# EAGLE library part HMC6343 (library SparkFun-Sensors)
Honewell HMC6343 Compass w/ Tilt Compensation The Honeywell HMC6343 is a fully integrated compass module that includes firmware for heading computation and calibration for magnetic distortions. The module combines three-axis magneto-resistive sensor, three-axis MEMS accelerometer, analog and digital support circuits, microprocessor and algorithms required for heading computation Datasheet <http://www51.honeywell.com/aero/common/documents/myaerospacecatalog-documents/Missiles-Munitions/HMC6343.pdf> SparkFun Products SparkFun HMC6343 Breakout <https://www.sparkfun.com/products/12916> (SEN-12916)
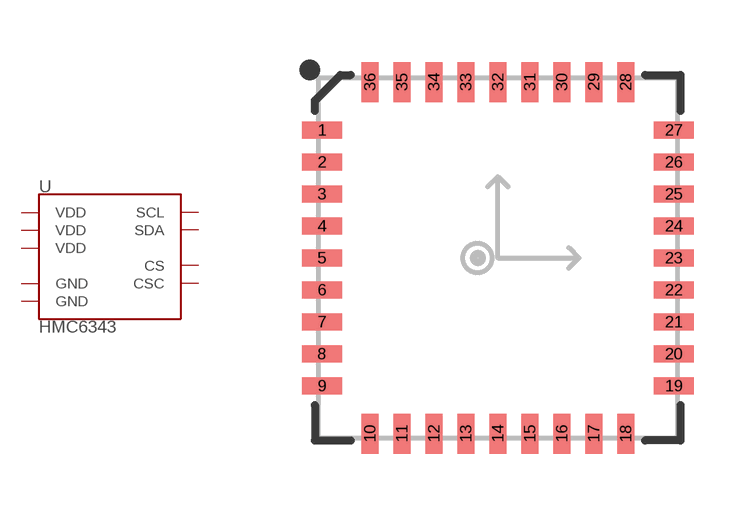
[diagram p5: symbol with the pads of LCC-36; footprint LCC-36]

Designator prefix U

## HMC6343 (PROD_ID: IC-12117)  [LCC-36]
3  VDD
11  VDD
21  VDD
22  CS
25  GND
29  GND
32  SCL
35  CSC
36  SDA

## Footprint LCC-36 (pad centres in mm)
36-Pin LCC (9 x 9 mm) Datasheet <http://www51.honeywell.com/aero/common/documents/myaerospacecatalog-documents/Missiles-Munitions/HMC6343.pdf> Specifications: Pin Count: 36 Area: 9.0 x 9.0 x 1.87 mm Pitch: 0.8 mm Devices Using: HMC6343
smd 1 x 0.42: 1 -4.4,3.2; 2 -4.4,2.4; 3 -4.4,1.6; 4 -4.4,0.8; 5 -4.4,0; 6 -4.4,-0.8; 7 -4.4,-1.6; 8 -4.4,-2.4; 9 -4.4,-3.2; 19 4.4,-3.2; 20 4.4,-2.4; 21 4.4,-1.6; 22 4.4,-0.8; 23 4.4,0; 24 4.4,0.8; 25 4.4,1.6; 26 4.4,2.4; 27 4.4,3.2
smd 0.42 x 1: 10 -3.2,-4.4; 11 -2.4,-4.4; 12 -1.6,-4.4; 13 -0.8,-4.4; 14 0,-4.4; 15 0.8,-4.4; 16 1.6,-4.4; 17 2.4,-4.4; 18 3.2,-4.4; 28 3.2,4.4; 29 2.4,4.4; 30 1.6,4.4; 31 0.8,4.4; 32 0,4.4; 33 -0.8,4.4; 34 -1.6,4.4; 35 -2.4,4.4; 36 -3.2,4.4